# EAGLE library part SLA7026 (library linear)
2-Phase Stepper Motor Unipolar Driver ICs
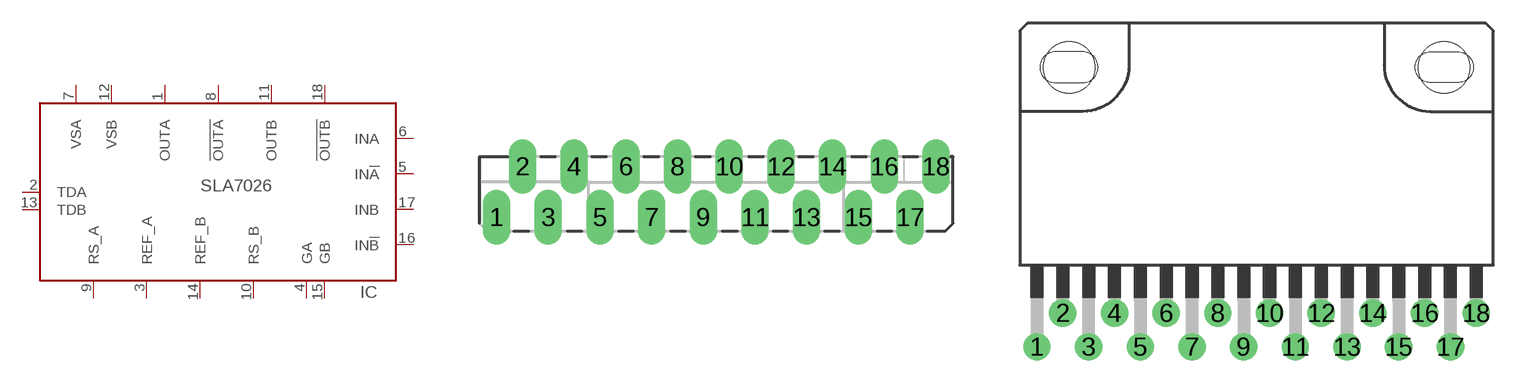
[diagram p263: symbol with the pads of LF871; footprints LF871, LF872]

Designator prefix IC

## SLA70261  [LF871]
1  OUTA  out
2  TDA  in
3  REF_A  in
4  GA  in
5  IN!A  in
6  INA  in
7  VSA  pwr
8  !OUTA  out
9  RS_A  pwr
10  RS_B  pwr
11  OUTB  out
12  VSB  in
13  TDB  in
14  REF_B  in
15  GB  in
16  IN!B  in
17  INB  in
18  !OUTB  out

## SLA70262  [LF872]
Pads as for LF871

## Footprint LF871 (pad centres in mm)
18-pin single in-line power-tab package LF871 Source: //www.allegromicro.com/datafile/97052.pdf
drill 1 pad 1.778 long: 1 -14.28,-1.65; 2 -12.6,1.65; 3 -10.92,-1.65; 4 -9.24,1.65; 5 -7.56,-1.65; 6 -5.88,1.65; 7 -4.2,-1.65; 8 -2.52,1.65; 9 -0.84,-1.65; 10 0.84,1.65; 11 2.52,-1.65; 12 4.2,1.65; 13 5.88,-1.65; 14 7.56,1.65; 15 9.24,-1.65; 16 10.92,1.65; 17 12.6,-1.65; 18 14.28,1.65

## Footprint LF872 (pad centres in mm)
18-pin single in-line power-tab package LF872 Source: http://www.allegromicro.com/datafile/97052.pdf
drill 1 pad 1.778 round: 1 -14.28,-2.2; 2 -12.6,0; 3 -10.92,-2.2; 4 -9.24,0; 5 -7.56,-2.2; 6 -5.88,0; 7 -4.2,-2.2; 8 -2.52,0; 9 -0.84,-2.2; 10 0.84,0; 11 2.52,-2.2; 12 4.2,0; 13 5.88,-2.2; 14 7.56,0; 15 9.24,-2.2; 16 10.92,0; 17 12.6,-2.2; 18 14.28,0
hole 3.35 at -12.2,16
hole 3.35 at 12.2,16